# Altium integrated library Linear Technology Power Management Energy Harvesting.IntLib: 169 symbols (part 7 of 13)
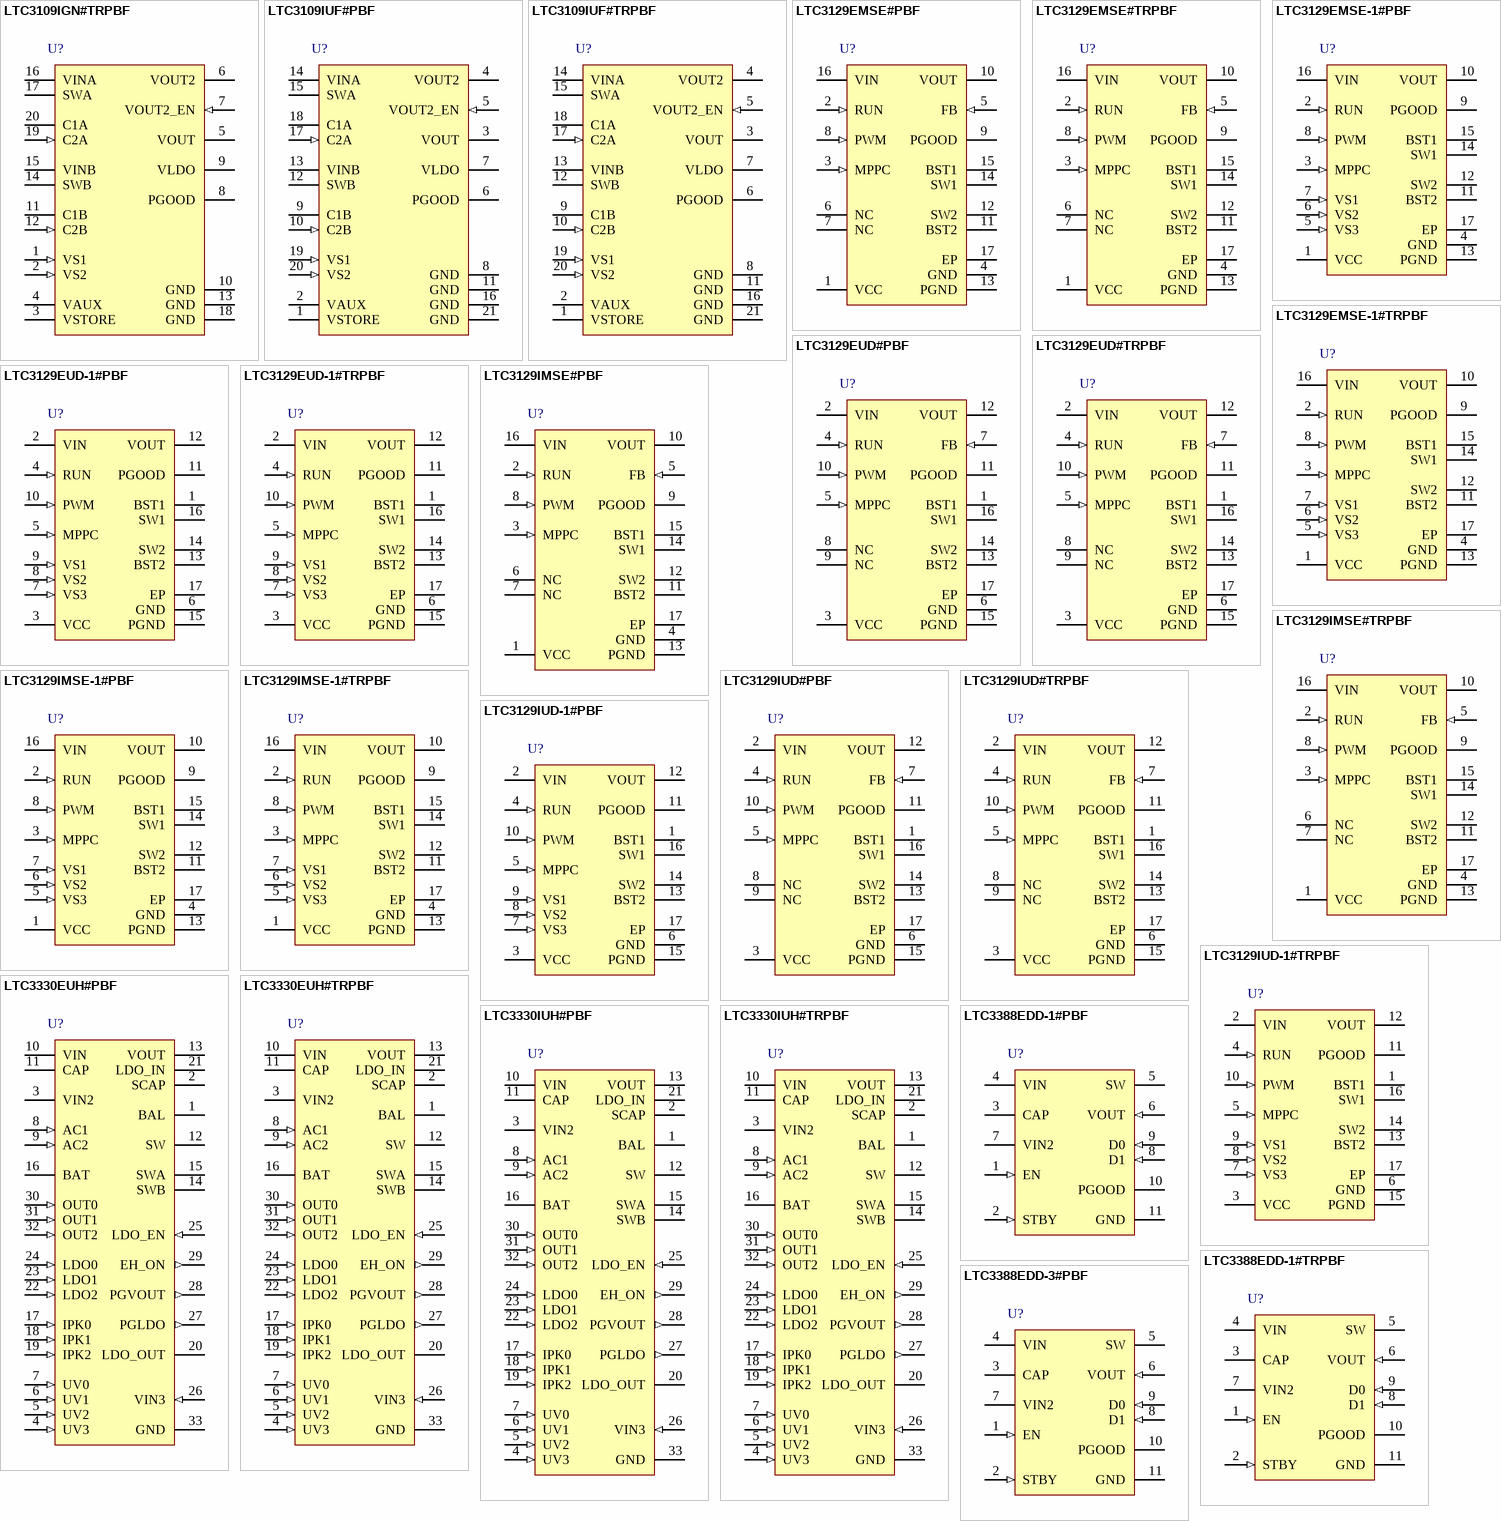
[diagram p11: symbols LTC3109IGN#TRPBF to LTC3388EDD-3#PBF]

## LTC3129IMSE-1#PBF
designator U?
15 V, 200 mA Synchronous Buck-Boost DC/DC Converter with 1.3 uA Quiescent Current, 16-pin SOP (MSE-16), -40 to 125 degC, Pb-Free; Manufacturer: Linear Technology; PartNumber: LTC3129IMSE-1#PBF; Number of Outputs: 1; Vin Max(V): 15; Vin Min(V): 1.92; Vout Max(V): 15.5; PackageVersion: Rev. F, 05/2013; PackageReference: MSE-16; PackageDescription: 16-Pin Plastic MSOP, Exposed Die Pad, Body 4.039 x 3 mm, Pitch 0.5 mm; Supplier 1: Digi-Key; Supplier Part Number 1: LTC3129IMSE-1#PBF-ND; Supplier 2: Farnell; Supplier Part Number 2: 2313432; Supplier 3: Newark; Supplier Part Number 3: 71W8442; RoHS: TRUE; Topology: Buck-Boost; Mounting Technology: Surface Mount; ComponentLink1Description: Manufacturer URL; ComponentLink1URL: http://www.linear.com/; ComponentLink2Description: Datasheet; ComponentLink2URL: http://cds.linear.com/docs/en/datasheet/31291f.pdf; ComponentLink3Description: Package Specification; ComponentLink3URL: http://cds.linear.com/docs/en/packaging/05081667_F_MSE16.pdf
footprint LT-MSE-16-EDP_N (SOP, 16-Leads, Body 4.1x3.1mm, Pitch 0.5mm, Thermal Pad 2.95x1.76mm, IPC Medium Density)
footprint LT-MSE-16-EDP_L (SOP, 16-Leads, Body 4.1x3.1mm, Pitch 0.5mm, Thermal Pad 2.95x1.76mm, IPC High Density)
footprint LT-MSE-16-EDP_M (SOP, 16-Leads, Body 4.1x3.1mm, Pitch 0.5mm, Thermal Pad 2.95x1.76mm, IPC Low Density)
pins: 1 VCC (power) "Output Voltage of the Internal Voltage Regulator. This is the supply pin for the internal circuitry. Bypass this output with a minimum of 2.2uF ceramic capacitor close to the pin. This pin may be back-driven by an external (See Datasheet)", 2 RUN (in) "Input to the Run Comparator. Pull this pin above 1.1V to enable the VCC regulator and above 1.28V to enable the converter. Connecting this pin to a resistor divider from VIN to ground allows programming a VIN start threshold (See Datasheet)", 3 MPPC (in) "Maximum Power Point Control Programming Pin. Connect this pin to a resistor divider from VIN to ground to enable the MPPC functionality. If the VOUT load is greater than what the power source can provide, the MPPC will (See Datasheet)", 4 GND (power) "Signal Ground. Provide a short direct PCB path between GND and the ground plane where the exposed pad is soldered.", 5 VS3 (in) "Output Voltage Select Pin. Connect this pin to ground or VCC to program the output voltage (see Table 1). This pin should not float or go below ground. If this pin is externally driven above VCC, a 1M resistor should be (See Datasheet)", 6 VS2 (in) "Output Voltage Select Pin. Connect this pin to ground or VCC to program the output voltage (see Table 1). This pin should not float or go below ground.", 7 VS1 (in) "Output Voltage Select Pin. Connect this pin to ground or VCC to program the output voltage (see Table 1). This pin should not float or go below ground.", 8 PWM (in) "Mode Select Pin. PWM = Low (ground): Enables automatic Burst Mode PWM = Low (ground): Enables automatic Burst Mode operation. PWM = High (tie to VCC): Fixed frequency PWM operation. This pin should not be allowed to float. (See Datasheet)", 9 PGOOD (oc) "Open drain output that pulls to ground when FB drops too far below its regulated voltage. Connect a pull-up resistor from this pin to a positive supply. This pin can sink up to the absolute maximum rating of 15mA when low. (See Datasheet)", 10 VOUT (power) "Output voltage of the converter, set by the VS1-VS3 programming pins according to Table 1. Connect a minimum value of 4.7uF ceramic capacitor from this pin to the ground plane, as close to the pin as possible.", 11 BST2 "Boot-Strapped Floating Supply for High Side NMOS Gate Drive. Connect to SW2 through a 22nF capacitor, as close to the part as possible. The value is not critical. Any value from 4.7nF to 47nF may be used", 12 SW2 "Switch Pin. Connect to one side of the inductor. Keep PCB trace lengths as short and wide as possible to reduce EMI.", 13 PGND (power) "Power Ground. Provide a short direct PCB path between PGND and the ground plane.", 14 SW1 "Switch Pin. Connect to one side of the inductor. Keep PCB trace lengths as short and wide as possible to reduce EMI.", 15 BST1 "Boot-Strapped Floating Supply for High Side NMOS Gate Drive. Connect to SW1 through a 22nF capacitor, as close to the part as possible. The value is not critical. Any value from 4.7nF to 47nF may be used.", 16 VIN (power) "Input Voltage for the Converter. Connect a minimum of 4.7uF ceramic decoupling capacitor from this pin to the ground plane, as close to the pin as possible.", 17 EP (power) "The exposed pad must also be soldered to the PCB ground plane. It serves as a power ground connection, and as a means of conducting heat away from the die."

## LTC3129IMSE-1#TRPBF
designator U?
15 V, 200 mA Synchronous Buck-Boost DC/DC Converter with 1.3 uA Quiescent Current, 16-pin SOP (MSE-16), -40 to 125 degC, Pb-Free, Tape and Reel; Manufacturer: Linear Technology; PartNumber: LTC3129IMSE-1#TRPBF; Number of Outputs: 1; Vin Max(V): 15; Vin Min(V): 1.92; Vout Max(V): 15.5; PackageVersion: Rev. F, 05/2013; PackageReference: MSE-16; PackageDescription: 16-Pin Plastic MSOP, Exposed Die Pad, Body 4.039 x 3 mm, Pitch 0.5 mm; Supplier 1: Digi-Key; Supplier Part Number 1: LTC3129IMSE-1#TRPBF-ND; Supplier 2: Newark; Supplier Part Number 2: 71W8443; Packing: Tape and Reel; RoHS: TRUE; Topology: Buck-Boost; Mounting Technology: Surface Mount; ComponentLink1Description: Manufacturer URL; ComponentLink1URL: http://www.linear.com/; ComponentLink2Description: Datasheet; ComponentLink2URL: http://cds.linear.com/docs/en/datasheet/31291f.pdf; ComponentLink3Description: Package Specification; ComponentLink3URL: http://cds.linear.com/docs/en/packaging/05081667_F_MSE16.pdf
footprint LT-MSE-16-EDP_N (SOP, 16-Leads, Body 4.1x3.1mm, Pitch 0.5mm, Thermal Pad 2.95x1.76mm, IPC Medium Density)
footprint LT-MSE-16-EDP_L (SOP, 16-Leads, Body 4.1x3.1mm, Pitch 0.5mm, Thermal Pad 2.95x1.76mm, IPC High Density)
footprint LT-MSE-16-EDP_M (SOP, 16-Leads, Body 4.1x3.1mm, Pitch 0.5mm, Thermal Pad 2.95x1.76mm, IPC Low Density)
pins: 1 VCC (power) "Output Voltage of the Internal Voltage Regulator. This is the supply pin for the internal circuitry. Bypass this output with a minimum of 2.2uF ceramic capacitor close to the pin. This pin may be back-driven by an external (See Datasheet)", 2 RUN (in) "Input to the Run Comparator. Pull this pin above 1.1V to enable the VCC regulator and above 1.28V to enable the converter. Connecting this pin to a resistor divider from VIN to ground allows programming a VIN start threshold (See Datasheet)", 3 MPPC (in) "Maximum Power Point Control Programming Pin. Connect this pin to a resistor divider from VIN to ground to enable the MPPC functionality. If the VOUT load is greater than what the power source can provide, the MPPC will (See Datasheet)", 4 GND (power) "Signal Ground. Provide a short direct PCB path between GND and the ground plane where the exposed pad is soldered.", 5 VS3 (in) "Output Voltage Select Pin. Connect this pin to ground or VCC to program the output voltage (see Table 1). This pin should not float or go below ground. If this pin is externally driven above VCC, a 1M resistor should be (See Datasheet)", 6 VS2 (in) "Output Voltage Select Pin. Connect this pin to ground or VCC to program the output voltage (see Table 1). This pin should not float or go below ground.", 7 VS1 (in) "Output Voltage Select Pin. Connect this pin to ground or VCC to program the output voltage (see Table 1). This pin should not float or go below ground.", 8 PWM (in) "Mode Select Pin. PWM = Low (ground): Enables automatic Burst Mode PWM = Low (ground): Enables automatic Burst Mode operation. PWM = High (tie to VCC): Fixed frequency PWM operation. This pin should not be allowed to float. (See Datasheet)", 9 PGOOD (oc) "Open drain output that pulls to ground when FB drops too far below its regulated voltage. Connect a pull-up resistor from this pin to a positive supply. This pin can sink up to the absolute maximum rating of 15mA when low. (See Datasheet)", 10 VOUT (power) "Output voltage of the converter, set by the VS1-VS3 programming pins according to Table 1. Connect a minimum value of 4.7uF ceramic capacitor from this pin to the ground plane, as close to the pin as possible.", 11 BST2 "Boot-Strapped Floating Supply for High Side NMOS Gate Drive. Connect to SW2 through a 22nF capacitor, as close to the part as possible. The value is not critical. Any value from 4.7nF to 47nF may be used", 12 SW2 "Switch Pin. Connect to one side of the inductor. Keep PCB trace lengths as short and wide as possible to reduce EMI.", 13 PGND (power) "Power Ground. Provide a short direct PCB path between PGND and the ground plane.", 14 SW1 "Switch Pin. Connect to one side of the inductor. Keep PCB trace lengths as short and wide as possible to reduce EMI.", 15 BST1 "Boot-Strapped Floating Supply for High Side NMOS Gate Drive. Connect to SW1 through a 22nF capacitor, as close to the part as possible. The value is not critical. Any value from 4.7nF to 47nF may be used.", 16 VIN (power) "Input Voltage for the Converter. Connect a minimum of 4.7uF ceramic decoupling capacitor from this pin to the ground plane, as close to the pin as possible.", 17 EP (power) "The exposed pad must also be soldered to the PCB ground plane. It serves as a power ground connection, and as a means of conducting heat away from the die."

## LTC3129IUD#PBF
designator U?
15 V, 200 mA Synchronous Buck-Boost DC/DC Converter with 1.3 uA Quiescent Current, 16-pin QFN (UD-16-EPV-AA), -40 to 125 degC, Pb-Free; Manufacturer: Linear Technology; PartNumber: LTC3129IUD#PBF; Number of Outputs: 1; Vin Max(V): 15; Vin Min(V): 1.92; Vout Max(V): 15.75; PackageVersion: Rev. A, 06/2010; PackageReference: UD-16; PackageDescription: 16-Pin Plastic QFN, Body 3 x 3 mm, Pitch 0.5 mm; Supplier 1: Digi-Key; Supplier Part Number 1: LTC3129IUD#PBF-ND; Supplier 2: Farnell; Supplier Part Number 2: 2313433; Supplier 3: Newark; Supplier Part Number 3: 71W8448; RoHS: TRUE; Topology: Buck-Boost; Mounting Technology: Surface Mount; Code_JEDEC: MO-220; ComponentLink1Description: Manufacturer URL; ComponentLink1URL: http://www.linear.com/; ComponentLink2Description: Datasheet; ComponentLink2URL: http://cds.linear.com/docs/en/datasheet/3129f.pdf; ComponentLink3Description: Package Specification; ComponentLink3URL: http://cds.linear.com/docs/en/packaging/QFN_16_05-08-1700.pdf
footprint LT-UD-16-EPV-AA_N (QFN, 16-Leads, Body 3.1x3.1mm, Pitch 0.5mm, Thermal Pad 1.65x1.65mm, IPC Medium Density)
footprint LT-UD-16-EPV-AA_L (QFN, 16-Leads, Body 3.1x3.1mm, Pitch 0.5mm, Thermal Pad 1.65x1.65mm, IPC High Density)
footprint LT-UD-16-EPV-AA_M (QFN, 16-Leads, Body 3.1x3.1mm, Pitch 0.5mm, Thermal Pad 1.65x1.65mm, IPC Low Density)
pins: 1 BST1 "Bootstrapped Floating Supply for  High Side NMOS Gate Drive. Connect to SW1 through a  22nF capacitor, as close to the part as possible. The value  is not critical. Any value from 4.7nF to 47nF may be used.", 2 VIN (power) "Input Voltage for the Converter. Connect  a minimum of 4.7uF ceramic decoupling capacitor from  this pin to the ground plane, as close to the pin as possible.", 3 VCC (power) "Output voltage of the internal voltage  regulator. This is the supply pin for the internal circuitry.  Bypass this output with a minimum of 2.2uF ceramic  capacitor close to the pin. This pin may be back-driven  by an (See Datasheet)", 4 RUN (in) "Input to the Run Comparator. Pull this  pin above 1.1V to enable the VCC regulator and above 1.28V  to enable the converter. Connecting this pin to a resistor  divider from VIN to ground allows programming a VIN start (See Datasheet)", 5 MPPC (in) "Maximum Power Point Control Programming Pin. Connect this pin to a resistor divider from  VIN to ground to enable the MPPC functionality. If the VOUT load is greater than what the power source can provide,  the MPPC will (See Datasheet)", 6 GND (power) "Signal Ground. Provide a short direct  PCB path between GND and the ground plane where the  exposed pad is soldered.", 7 FB (in) "Feedback Input to the Error Amplifier. V OUT = 1.175V • [1+(R1/R2)]. Note this pin is very noise  sensitive, therefore minimize trace length and stray capacitance. Connect to a resistor divider from VOUT to ground. The(See Datasheet)", 8 NC "Unused. These pins should be  grounded.", 9 NC "Unused. These pins should be  grounded.", 10 PWM (in) "Mode Select Pin. PWM = Low (ground): Enables automatic Burst Mode  operation. PWM = High (tie to VCC): Fixed frequency PMW operation. This pin should not be allowed to float. It has an internal  5M pull-down resistor.", 11 PGOOD (oc) "Open drain output that pulls to  ground when FB drops too far below its regulated voltage. Connect a pull-up resistor from this pin to a positive  supply. This pin can sink up to the absolute maximum  rating of 15mA when low.(See Datasheet)", 12 VOUT (power) "Output voltage of the converter.  Connect a minimum value of 4.7uF ceramic capacitor from  this pin to the ground plane, as close to the pin as possible.", 13 BST2 "Bootstrapped floating supply for  high side NMOS gate drive. Connect to SW2 through a  22nF capacitor, as close to the part as possible. The value  is not critical. Any value from 4.7nF to 47nF may be used.", 14 SW2 "Switch Pin. Connect to one side of  the inductor. Keep PCB trace lengths as short and wide  as possible to reduce EMI.", 15 PGND (power) "Power Ground. Provide a short direct PCB  path between PGND and the ground plane. The exposed  pad must also be soldered to the PCB ground plane. It  serves as a power ground connection, and as a means of  conducting heat (See Datasheet)", 16 SW1 "Switch Pin. Connect to one side of  the inductor. Keep PCB trace lengths as short and wide  as possible to reduce EMI.", 17 EP (power) "Power Ground. Provide a short direct PCB  path between PGND and the ground plane. The exposed  pad must also be soldered to the PCB ground plane. It  serves as a power ground connection, and as a means of  conducting heat (See Datasheet)"

## LTC3129IUD#TRPBF
designator U?
15 V, 200 mA Synchronous Buck-Boost DC/DC Converter with 1.3 uA Quiescent Current, 16-pin QFN (UD-16-EPV-AA), -40 to 125 degC, Pb-Free, Tape and Reel; Manufacturer: Linear Technology; PartNumber: LTC3129IUD#TRPBF; Number of Outputs: 1; Vin Max(V): 15; Vin Min(V): 1.92; Vout Max(V): 15.5; PackageVersion: Rev. A, 06/2010; PackageReference: UD-16; PackageDescription: 16-Pin Plastic QFN, Body 3 x 3 mm, Pitch 0.5 mm; Supplier 1: Digi-Key; Supplier Part Number 1: LTC3129IUD#TRPBF-ND; Supplier 2: Newark; Supplier Part Number 2: 71W8449; Packing: Tape and Reel; RoHS: TRUE; Topology: Buck-Boost; Mounting Technology: Surface Mount; Code_JEDEC: MO-220; ComponentLink1Description: Manufacturer URL; ComponentLink1URL: http://www.linear.com/; ComponentLink2Description: Datasheet; ComponentLink2URL: http://cds.linear.com/docs/en/datasheet/3129f.pdf; ComponentLink3Description: Package Specification; ComponentLink3URL: http://cds.linear.com/docs/en/packaging/QFN_16_05-08-1700.pdf
footprint LT-UD-16-EPV-AA_N (QFN, 16-Leads, Body 3.1x3.1mm, Pitch 0.5mm, Thermal Pad 1.65x1.65mm, IPC Medium Density)
footprint LT-UD-16-EPV-AA_L (QFN, 16-Leads, Body 3.1x3.1mm, Pitch 0.5mm, Thermal Pad 1.65x1.65mm, IPC High Density)
footprint LT-UD-16-EPV-AA_M (QFN, 16-Leads, Body 3.1x3.1mm, Pitch 0.5mm, Thermal Pad 1.65x1.65mm, IPC Low Density)
pins: 1 BST1 "Bootstrapped Floating Supply for  High Side NMOS Gate Drive. Connect to SW1 through a  22nF capacitor, as close to the part as possible. The value  is not critical. Any value from 4.7nF to 47nF may be used.", 2 VIN (power) "Input Voltage for the Converter. Connect  a minimum of 4.7uF ceramic decoupling capacitor from  this pin to the ground plane, as close to the pin as possible.", 3 VCC (power) "Output voltage of the internal voltage  regulator. This is the supply pin for the internal circuitry.  Bypass this output with a minimum of 2.2uF ceramic  capacitor close to the pin. This pin may be back-driven  by an (See Datasheet)", 4 RUN (in) "Input to the Run Comparator. Pull this  pin above 1.1V to enable the VCC regulator and above 1.28V  to enable the converter. Connecting this pin to a resistor  divider from VIN to ground allows programming a VIN start (See Datasheet)", 5 MPPC (in) "Maximum Power Point Control Programming Pin. Connect this pin to a resistor divider from  VIN to ground to enable the MPPC functionality. If the VOUT load is greater than what the power source can provide,  the MPPC will (See Datasheet)", 6 GND (power) "Signal Ground. Provide a short direct  PCB path between GND and the ground plane where the  exposed pad is soldered.", 7 FB (in) "Feedback Input to the Error Amplifier. V OUT = 1.175V • [1+(R1/R2)]. Note this pin is very noise  sensitive, therefore minimize trace length and stray capacitance. Connect to a resistor divider from VOUT to ground. The(See Datasheet)", 8 NC "Unused. These pins should be  grounded.", 9 NC "Unused. These pins should be  grounded.", 10 PWM (in) "Mode Select Pin. PWM = Low (ground): Enables automatic Burst Mode  operation. PWM = High (tie to VCC): Fixed frequency PMW operation. This pin should not be allowed to float. It has an internal  5M pull-down resistor.", 11 PGOOD (oc) "Open drain output that pulls to  ground when FB drops too far below its regulated voltage. Connect a pull-up resistor from this pin to a positive  supply. This pin can sink up to the absolute maximum  rating of 15mA when low.(See Datasheet)", 12 VOUT (power) "Output voltage of the converter.  Connect a minimum value of 4.7uF ceramic capacitor from  this pin to the ground plane, as close to the pin as possible.", 13 BST2 "Bootstrapped floating supply for  high side NMOS gate drive. Connect to SW2 through a  22nF capacitor, as close to the part as possible. The value  is not critical. Any value from 4.7nF to 47nF may be used.", 14 SW2 "Switch Pin. Connect to one side of  the inductor. Keep PCB trace lengths as short and wide  as possible to reduce EMI.", 15 PGND (power) "Power Ground. Provide a short direct PCB  path between PGND and the ground plane. The exposed  pad must also be soldered to the PCB ground plane. It  serves as a power ground connection, and as a means of  conducting heat (See Datasheet)", 16 SW1 "Switch Pin. Connect to one side of  the inductor. Keep PCB trace lengths as short and wide  as possible to reduce EMI.", 17 EP (power) "Power Ground. Provide a short direct PCB  path between PGND and the ground plane. The exposed  pad must also be soldered to the PCB ground plane. It  serves as a power ground connection, and as a means of  conducting heat (See Datasheet)"

## LTC3129IUD-1#PBF
designator U?
15 V, 200 mA Synchronous Buck-Boost DC/DC Converter with 1.3 uA Quiescent Current, 16-pin QFN (UD-16-EPV-AA), -40 to 125 degC, Pb-Free; Manufacturer: Linear Technology; PartNumber: LTC3129IUD-1#PBF; Number of Outputs: 1; Vin Max(V): 15; Vin Min(V): 1.92; Vout Max(V): 15.5; PackageVersion: Rev. A, 06/2010; PackageReference: UD-16; PackageDescription: 16-Pin Plastic QFN, Body 3 x 3 mm, Pitch 0.5 mm; Supplier 1: Digi-Key; Supplier Part Number 1: LTC3129IUD-1#PBF-ND; Supplier 2: Farnell; Supplier Part Number 2: 2313434; Supplier 3: Newark; Supplier Part Number 3: 71W8446; RoHS: TRUE; Topology: Buck-Boost; Mounting Technology: Surface Mount; Code_JEDEC: MO-220; ComponentLink1Description: Manufacturer URL; ComponentLink1URL: http://www.linear.com/; ComponentLink2Description: Datasheet; ComponentLink2URL: http://cds.linear.com/docs/en/datasheet/31291f.pdf; ComponentLink3Description: Package Specification; ComponentLink3URL: http://cds.linear.com/docs/en/packaging/QFN_16_05-08-1700.pdf
footprint LT-UD-16-EPV-AA_N (QFN, 16-Leads, Body 3.1x3.1mm, Pitch 0.5mm, Thermal Pad 1.65x1.65mm, IPC Medium Density)
footprint LT-UD-16-EPV-AA_L (QFN, 16-Leads, Body 3.1x3.1mm, Pitch 0.5mm, Thermal Pad 1.65x1.65mm, IPC High Density)
footprint LT-UD-16-EPV-AA_M (QFN, 16-Leads, Body 3.1x3.1mm, Pitch 0.5mm, Thermal Pad 1.65x1.65mm, IPC Low Density)
pins: 1 BST1 "Boot-Strapped Floating Supply for High Side NMOS Gate Drive. Connect to SW1 through a 22nF capacitor, as close to the part as possible. The value is not critical. Any value from 4.7nF to 47nF may be used.", 2 VIN (power) "Input Voltage for the Converter. Connect a minimum of 4.7uF ceramic decoupling capacitor from this pin to the ground plane, as close to the pin as possible.", 3 VCC (power) "Output Voltage of the Internal Voltage Regulator. This is the supply pin for the internal circuitry. Bypass this output with a minimum of 2.2uF ceramic capacitor close to the pin. This pin may be back-driven by an external (See Datasheet)", 4 RUN (in) "Input to the Run Comparator. Pull this pin above 1.1V to enable the VCC regulator and above 1.28V to enable the converter. Connecting this pin to a resistor divider from VIN to ground allows programming a VIN start threshold (See Datasheet)", 5 MPPC (in) "Maximum Power Point Control Programming Pin. Connect this pin to a resistor divider from VIN to ground to enable the MPPC functionality. If the VOUT load is greater than what the power source can provide, the MPPC will (See Datasheet)", 6 GND (power) "Signal Ground. Provide a short direct PCB path between GND and the ground plane where the exposed pad is soldered.", 7 VS3 (in) "Output Voltage Select Pin. Connect this pin to ground or VCC to program the output voltage (see Table 1). This pin should not float or go below ground. If this pin is externally driven above VCC, a 1M resistor should be (See Datasheet)", 8 VS2 (in) "Output Voltage Select Pin. Connect this pin to ground or VCC to program the output voltage (see Table 1). This pin should not float or go below ground.", 9 VS1 (in) "Output Voltage Select Pin. Connect this pin to ground or VCC to program the output voltage (see Table 1). This pin should not float or go below ground.", 10 PWM (in) "Mode Select Pin. PWM = Low (ground): Enables automatic Burst Mode PWM = Low (ground): Enables automatic Burst Mode operation. PWM = High (tie to VCC): Fixed frequency PWM operation. This pin should not be allowed to float. (See Datasheet)", 11 PGOOD (oc) "Open drain output that pulls to ground when FB drops too far below its regulated voltage. Connect a pull-up resistor from this pin to a positive supply. This pin can sink up to the absolute maximum rating of 15mA when low. (See Datasheet)", 12 VOUT (power) "Output voltage of the converter, set by the VS1-VS3 programming pins according to Table 1. Connect a minimum value of 4.7uF ceramic capacitor from this pin to the ground plane, as close to the pin as possible.", 13 BST2 "Boot-Strapped Floating Supply for High Side NMOS Gate Drive. Connect to SW2 through a 22nF capacitor, as close to the part as possible. The value is not critical. Any value from 4.7nF to 47nF may be used", 14 SW2 "Switch Pin. Connect to one side of the inductor. Keep PCB trace lengths as short and wide as possible to reduce EMI.", 15 PGND (power) "Power Ground. Provide a short direct PCB path between PGND and the ground plane.", 16 SW1 "Switch Pin. Connect to one side of the inductor. Keep PCB trace lengths as short and wide as possible to reduce EMI.", 17 EP (power) "The exposed pad must also be soldered to the PCB ground plane. It serves as a power ground connection, and as a means of conducting heat away from the die."

## LTC3129IUD-1#TRPBF
designator U?
15 V, 200 mA Synchronous Buck-Boost DC/DC Converter with 1.3 uA Quiescent Current, 16-pin QFN (UD-16-EPV-AA), -40 to 125 degC, Pb-Free, Tape and Reel; Manufacturer: Linear Technology; PartNumber: LTC3129IUD-1#TRPBF; Number of Outputs: 1; Vin Max(V): 15; Vin Min(V): 1.92; Vout Max(V): 15.5; PackageVersion: Rev. A, 06/2010; PackageReference: UD-16; PackageDescription: 16-Pin Plastic QFN, Body 3 x 3 mm, Pitch 0.5 mm; Supplier 1: Digi-Key; Supplier Part Number 1: LTC3129IUD-1#TRPBF-ND; Supplier 2: Newark; Supplier Part Number 2: 71W8447; Packing: Tape and Reel; RoHS: TRUE; Topology: Buck-Boost; Mounting Technology: Surface Mount; Code_JEDEC: MO-220; ComponentLink1Description: Manufacturer URL; ComponentLink1URL: http://www.linear.com/; ComponentLink2Description: Datasheet; ComponentLink2URL: http://cds.linear.com/docs/en/datasheet/31291f.pdf; ComponentLink3Description: Package Specification; ComponentLink3URL: http://cds.linear.com/docs/en/packaging/QFN_16_05-08-1700.pdf
footprint LT-UD-16-EPV-AA_N (QFN, 16-Leads, Body 3.1x3.1mm, Pitch 0.5mm, Thermal Pad 1.65x1.65mm, IPC Medium Density)
footprint LT-UD-16-EPV-AA_L (QFN, 16-Leads, Body 3.1x3.1mm, Pitch 0.5mm, Thermal Pad 1.65x1.65mm, IPC High Density)
footprint LT-UD-16-EPV-AA_M (QFN, 16-Leads, Body 3.1x3.1mm, Pitch 0.5mm, Thermal Pad 1.65x1.65mm, IPC Low Density)
pins: 1 BST1 "Boot-Strapped Floating Supply for High Side NMOS Gate Drive. Connect to SW1 through a 22nF capacitor, as close to the part as possible. The value is not critical. Any value from 4.7nF to 47nF may be used.", 2 VIN (power) "Input Voltage for the Converter. Connect a minimum of 4.7uF ceramic decoupling capacitor from this pin to the ground plane, as close to the pin as possible.", 3 VCC (power) "Output Voltage of the Internal Voltage Regulator. This is the supply pin for the internal circuitry. Bypass this output with a minimum of 2.2uF ceramic capacitor close to the pin. This pin may be back-driven by an external (See Datasheet)", 4 RUN (in) "Input to the Run Comparator. Pull this pin above 1.1V to enable the VCC regulator and above 1.28V to enable the converter. Connecting this pin to a resistor divider from VIN to ground allows programming a VIN start threshold (See Datasheet)", 5 MPPC (in) "Maximum Power Point Control Programming Pin. Connect this pin to a resistor divider from VIN to ground to enable the MPPC functionality. If the VOUT load is greater than what the power source can provide, the MPPC will (See Datasheet)", 6 GND (power) "Signal Ground. Provide a short direct PCB path between GND and the ground plane where the exposed pad is soldered.", 7 VS3 (in) "Output Voltage Select Pin. Connect this pin to ground or VCC to program the output voltage (see Table 1). This pin should not float or go below ground. If this pin is externally driven above VCC, a 1M resistor should be (See Datasheet)", 8 VS2 (in) "Output Voltage Select Pin. Connect this pin to ground or VCC to program the output voltage (see Table 1). This pin should not float or go below ground.", 9 VS1 (in) "Output Voltage Select Pin. Connect this pin to ground or VCC to program the output voltage (see Table 1). This pin should not float or go below ground.", 10 PWM (in) "Mode Select Pin. PWM = Low (ground): Enables automatic Burst Mode PWM = Low (ground): Enables automatic Burst Mode operation. PWM = High (tie to VCC): Fixed frequency PWM operation. This pin should not be allowed to float. (See Datasheet)", 11 PGOOD (oc) "Open drain output that pulls to ground when FB drops too far below its regulated voltage. Connect a pull-up resistor from this pin to a positive supply. This pin can sink up to the absolute maximum rating of 15mA when low. (See Datasheet)", 12 VOUT (power) "Output voltage of the converter, set by the VS1-VS3 programming pins according to Table 1. Connect a minimum value of 4.7uF ceramic capacitor from this pin to the ground plane, as close to the pin as possible.", 13 BST2 "Boot-Strapped Floating Supply for High Side NMOS Gate Drive. Connect to SW2 through a 22nF capacitor, as close to the part as possible. The value is not critical. Any value from 4.7nF to 47nF may be used", 14 SW2 "Switch Pin. Connect to one side of the inductor. Keep PCB trace lengths as short and wide as possible to reduce EMI.", 15 PGND (power) "Power Ground. Provide a short direct PCB path between PGND and the ground plane.", 16 SW1 "Switch Pin. Connect to one side of the inductor. Keep PCB trace lengths as short and wide as possible to reduce EMI.", 17 EP (power) "The exposed pad must also be soldered to the PCB ground plane. It serves as a power ground connection, and as a means of conducting heat away from the die."

## LTC3330EUH#PBF
designator U?
Energy Harvesting DC/DC with Battery Backup, 32-pin QFN (UH-32), -40 to 85 degC, Pb-Free; Manufacturer: Linear Technology; PartNumber: LTC3330EUH#PBF; Energy Source: Piezoelectric, Solar, Magnetic; Number of Outputs: 2; Topology: Buck-Boost; Vin Max(V): 18; Vin Min(V): 3; PackageVersion: Rev. D, 06/2010; PackageReference: UH-32; PackageDescription: 32-Pin Plastic QFN, Body 5 x 5 mm, Pitch 0.5 mm; RoHS: TRUE; Mounting Technology: Surface Mount; Code_JEDEC: MO-220; ComponentLink1Description: Manufacturer URL; ComponentLink1URL: http://www.linear.com/; ComponentLink2Description: Datasheet; ComponentLink2URL: http://cds.linear.com/docs/en/datasheet/3330p.pdf; ComponentLink3Description: Package Specification; ComponentLink3URL: http://cds.linear.com/docs/en/packaging/QFN_32_05-08-1693.pdf
footprint LT-UH-32_N (QFN, 32-Leads, Body 5.1x5.1mm, Pitch 0.5mm, Thermal Pad 3.45X3.45mm, IPC Medium Density)
footprint LT-UH-32_L (QFN, 32-Leads, Body 5.1x5.1mm, Pitch 0.5mm, Thermal Pad 3.45X3.45mm, IPC High Density)
footprint LT-UH-32_M (QFN, 32-Leads, Body 5.1x5.1mm, Pitch 0.5mm, Thermal Pad 3.45X3.45mm, IPC Low Density)
pins: 1 BAL "Supercapacitor Balance Point. The common node of a stack of two supercapacitors is connected to BAL. A source/sink balancing current of up to 10mA is available. Tie BAL along with SCAP to GND to disable the balancer and its (See Datasheet)", 2 SCAP "Supply and Sense Point for Supercapacitor Balancer. Tie the top of a 2-capacitor stack to SCAP and the middle of the stack to BAL to activate balancing. Tie SCAP along with BAL to GND to disable the balancer and its (See Datasheet)", 3 VIN2 (power) "Internal Low Voltage Rail to Serve as Gate Drive for Buck NMOS Switch. Connect a 4.7uF (or larger) capacitor from VIN2 to GND. This pin is not intended for use as an external system rail.", 4 UV3 (in) "UVLO Select Bits for the Buck Switching Regulator. Tie high to VIN2 or low to GND to select the desired UVLO rising and falling thresholds (see Table 4). Do not float.", 5 UV2 (in) "UVLO Select Bits for the Buck Switching Regulator. Tie high to VIN2 or low to GND to select the desired UVLO rising and falling thresholds (see Table 4). Do not float.", 6 UV1 (in) "UVLO Select Bits for the Buck Switching Regulator. Tie high to VIN2 or low to GND to select the desired UVLO rising and falling thresholds (see Table 4). Do not float.", 7 UV0 (in) "UVLO Select Bits for the Buck Switching Regulator. Tie high to VIN2 or low to GND to select the desired UVLO rising and falling thresholds (see Table 4). Do not float.", 8 AC1 (in) "Input Connection for Piezoelectric Element or Other AC Source (used in conjunction with AC2 for differential AC inputs).", 9 AC2 (in) "Input Connection for Piezoelectric Element or Other AC Source (used in conjunction with AC1 for differential AC inputs).", 10 VIN (power) "Rectified Input Voltage. A capacitor on this pin serves as an energy reservoir and input supply for the buck regulator. The VIN voltage is internally clamped to a maximum of 20V (typical).", 11 CAP "Internal Rail Referenced to VIN to Serve as Gate Drive for Buck PMOS Switch. Connect a 1uF (or larger) capacitor between CAP and VIN. This pin is not intended for use as an external system rail.", 12 SW (power) "Switch Node for the Buck Switching Regulator. Connect a 22uH or greater external inductor between this node and VOUT.", 13 VOUT (power) "Regulated Output Voltage Derived from the Buck or Buck-Boost Switching Regulator.", 14 SWB (power) "Switch Node for the Buck-Boost Switching Regulator. Connect an external inductor between this node and SWA of value per Table 3.", 15 SWA (power) "Switch Node for the Buck-Boost Switching Regulator. Connect an external inductor between this node and SWB of value per Table 3.", 16 BAT (power) "Input for Battery. BAT serves as the input to the buck-boost switching regulator.", 17 IPK0 (in) "IPEAK Select Bits or the Buck-Boost Switching Regulator. Tie high to VIN3 or low to GND to select the desired IPEAK (see Table 3). Do not float.", 18 IPK1 (in) "IPEAK Select Bits or the Buck-Boost Switching Regulator. Tie high to VIN3 or low to GND to select the desired IPEAK (see Table 3). Do not float.", 19 IPK2 (in) "IPEAK Select Bits or the Buck-Boost Switching Regulator. Tie high to VIN3 or low to GND to select the desired IPEAK (see Table 3). Do not float.", 20 LDO_OUT (power) "Regulated LDO Output. This output can be used as a quiet supply. One mode is provided to run the LDO as a current limited switch to alternately power up and power down circuitry without low power modes.", 21 LDO_IN (power) "Input Voltage for the LDO regulator.", 22 LDO2 (in) "LDO Voltage Select Bits. Tie high to LDO_IN or low to GND to select the desired LDO_OUT voltage (see Table 2). Do not float.", 23 LDO1 (in) "LDO Voltage Select Bits. Tie high to LDO_IN or low to GND to select the desired LDO_OUT voltage (see Table 2). Do not float.", 24 LDO0 (in) "LDO Voltage Select Bits. Tie high to LDO_IN or low to GND to select the desired LDO_OUT voltage (see Table 2). Do not float.", 25 LDO_EN (in) "LDO Enable Input. Active high input with logic levels referenced to LDO_IN. Do not float.", 26 VIN3 (in) "Internal Low Voltage Rail Used by the Prioritizer. Connect a 1uF (or larger) capacitor from VIN3 to GND. This pin is not intended for use as an external system rail.", 27 PGLDO (out) "Power Good Output for LDO_OUT. Logic level output referenced to an internal maximum rail (see Operation). PGLDO transitioning high indicates 92.5% (typical) regulation has been reached on LDO_OUT. PGLDO remains high until (See Datasheet)", 28 PGVOUT (out) "Power Good Output for VOUT. Logic level output referenced to an internal maximum rail (see Operation). PGVOUT transitioning high indicates regulation has been reached on VOUT (VOUT = Sleep Rising). PGVOUT remains high until (See Datasheet)", 29 EH_ON (out) "Switcher Status. Logic level output referenced to VIN3. EH_ON is high when the buck switching regulator is in use. It is pulled low when buck-boost switching regulator is in use.", 30 OUT0 (in) "VOUT Voltage Select Bits. Tie high to VIN3 or low to GND to select the desired VOUT (see Table 1). Do not float.", 31 OUT1 (in) "VOUT Voltage Select Bits. Tie high to VIN3 or low to GND to select the desired VOUT (see Table 1). Do not float.", 32 OUT2 (in) "VOUT Voltage Select Bits. Tie high to VIN3 or low to GND to select the desired VOUT (see Table 1). Do not float.", 33 GND (power) "Ground. The exposed pad must be connected to a continuous ground plane on the second layer of the printed circuit board by several vias directly under the LTC3330."

## LTC3330EUH#TRPBF
designator U?
Energy Harvesting DC/DC with Battery Backup, 32-pin QFN (UH-32), -40 to 85 degC, Pb-Free, Tape and Reel; Manufacturer: Linear Technology; PartNumber: LTC3330EUH#TRPBF; Energy Source: Piezoelectric, Solar, Magnetic; Number of Outputs: 2; Topology: Buck-Boost; Vin Max(V): 18; Vin Min(V): 3; PackageVersion: Rev. D, 06/2010; PackageReference: UH-32; PackageDescription: 32-Pin Plastic QFN, Body 5 x 5 mm, Pitch 0.5 mm; Packing: Tape and Reel; RoHS: TRUE; Mounting Technology: Surface Mount; Code_JEDEC: MO-220; ComponentLink1Description: Manufacturer URL; ComponentLink1URL: http://www.linear.com/; ComponentLink2Description: Datasheet; ComponentLink2URL: http://cds.linear.com/docs/en/datasheet/3330p.pdf; ComponentLink3Description: Package Specification; ComponentLink3URL: http://cds.linear.com/docs/en/packaging/QFN_32_05-08-1693.pdf
footprint LT-UH-32_N (QFN, 32-Leads, Body 5.1x5.1mm, Pitch 0.5mm, Thermal Pad 3.45X3.45mm, IPC Medium Density)
footprint LT-UH-32_L (QFN, 32-Leads, Body 5.1x5.1mm, Pitch 0.5mm, Thermal Pad 3.45X3.45mm, IPC High Density)
footprint LT-UH-32_M (QFN, 32-Leads, Body 5.1x5.1mm, Pitch 0.5mm, Thermal Pad 3.45X3.45mm, IPC Low Density)
pins: 1 BAL "Supercapacitor Balance Point. The common node of a stack of two supercapacitors is connected to BAL. A source/sink balancing current of up to 10mA is available. Tie BAL along with SCAP to GND to disable the balancer and its (See Datasheet)", 2 SCAP "Supply and Sense Point for Supercapacitor Balancer. Tie the top of a 2-capacitor stack to SCAP and the middle of the stack to BAL to activate balancing. Tie SCAP along with BAL to GND to disable the balancer and its (See Datasheet)", 3 VIN2 (power) "Internal Low Voltage Rail to Serve as Gate Drive for Buck NMOS Switch. Connect a 4.7uF (or larger) capacitor from VIN2 to GND. This pin is not intended for use as an external system rail.", 4 UV3 (in) "UVLO Select Bits for the Buck Switching Regulator. Tie high to VIN2 or low to GND to select the desired UVLO rising and falling thresholds (see Table 4). Do not float.", 5 UV2 (in) "UVLO Select Bits for the Buck Switching Regulator. Tie high to VIN2 or low to GND to select the desired UVLO rising and falling thresholds (see Table 4). Do not float.", 6 UV1 (in) "UVLO Select Bits for the Buck Switching Regulator. Tie high to VIN2 or low to GND to select the desired UVLO rising and falling thresholds (see Table 4). Do not float.", 7 UV0 (in) "UVLO Select Bits for the Buck Switching Regulator. Tie high to VIN2 or low to GND to select the desired UVLO rising and falling thresholds (see Table 4). Do not float.", 8 AC1 (in) "Input Connection for Piezoelectric Element or Other AC Source (used in conjunction with AC2 for differential AC inputs).", 9 AC2 (in) "Input Connection for Piezoelectric Element or Other AC Source (used in conjunction with AC1 for differential AC inputs).", 10 VIN (power) "Rectified Input Voltage. A capacitor on this pin serves as an energy reservoir and input supply for the buck regulator. The VIN voltage is internally clamped to a maximum of 20V (typical).", 11 CAP "Internal Rail Referenced to VIN to Serve as Gate Drive for Buck PMOS Switch. Connect a 1uF (or larger) capacitor between CAP and VIN. This pin is not intended for use as an external system rail.", 12 SW (power) "Switch Node for the Buck Switching Regulator. Connect a 22uH or greater external inductor between this node and VOUT.", 13 VOUT (power) "Regulated Output Voltage Derived from the Buck or Buck-Boost Switching Regulator.", 14 SWB (power) "Switch Node for the Buck-Boost Switching Regulator. Connect an external inductor between this node and SWA of value per Table 3.", 15 SWA (power) "Switch Node for the Buck-Boost Switching Regulator. Connect an external inductor between this node and SWB of value per Table 3.", 16 BAT (power) "Input for Battery. BAT serves as the input to the buck-boost switching regulator.", 17 IPK0 (in) "IPEAK Select Bits or the Buck-Boost Switching Regulator. Tie high to VIN3 or low to GND to select the desired IPEAK (see Table 3). Do not float.", 18 IPK1 (in) "IPEAK Select Bits or the Buck-Boost Switching Regulator. Tie high to VIN3 or low to GND to select the desired IPEAK (see Table 3). Do not float.", 19 IPK2 (in) "IPEAK Select Bits or the Buck-Boost Switching Regulator. Tie high to VIN3 or low to GND to select the desired IPEAK (see Table 3). Do not float.", 20 LDO_OUT (power) "Regulated LDO Output. This output can be used as a quiet supply. One mode is provided to run the LDO as a current limited switch to alternately power up and power down circuitry without low power modes.", 21 LDO_IN (power) "Input Voltage for the LDO regulator.", 22 LDO2 (in) "LDO Voltage Select Bits. Tie high to LDO_IN or low to GND to select the desired LDO_OUT voltage (see Table 2). Do not float.", 23 LDO1 (in) "LDO Voltage Select Bits. Tie high to LDO_IN or low to GND to select the desired LDO_OUT voltage (see Table 2). Do not float.", 24 LDO0 (in) "LDO Voltage Select Bits. Tie high to LDO_IN or low to GND to select the desired LDO_OUT voltage (see Table 2). Do not float.", 25 LDO_EN (in) "LDO Enable Input. Active high input with logic levels referenced to LDO_IN. Do not float.", 26 VIN3 (in) "Internal Low Voltage Rail Used by the Prioritizer. Connect a 1uF (or larger) capacitor from VIN3 to GND. This pin is not intended for use as an external system rail.", 27 PGLDO (out) "Power Good Output for LDO_OUT. Logic level output referenced to an internal maximum rail (see Operation). PGLDO transitioning high indicates 92.5% (typical) regulation has been reached on LDO_OUT. PGLDO remains high until (See Datasheet)", 28 PGVOUT (out) "Power Good Output for VOUT. Logic level output referenced to an internal maximum rail (see Operation). PGVOUT transitioning high indicates regulation has been reached on VOUT (VOUT = Sleep Rising). PGVOUT remains high until (See Datasheet)", 29 EH_ON (out) "Switcher Status. Logic level output referenced to VIN3. EH_ON is high when the buck switching regulator is in use. It is pulled low when buck-boost switching regulator is in use.", 30 OUT0 (in) "VOUT Voltage Select Bits. Tie high to VIN3 or low to GND to select the desired VOUT (see Table 1). Do not float.", 31 OUT1 (in) "VOUT Voltage Select Bits. Tie high to VIN3 or low to GND to select the desired VOUT (see Table 1). Do not float.", 32 OUT2 (in) "VOUT Voltage Select Bits. Tie high to VIN3 or low to GND to select the desired VOUT (see Table 1). Do not float.", 33 GND (power) "Ground. The exposed pad must be connected to a continuous ground plane on the second layer of the printed circuit board by several vias directly under the LTC3330."

## LTC3330IUH#PBF
designator U?
Energy Harvesting DC/DC with Battery Backup, 32-pin QFN (UH-32), -40 to 125 degC, Pb-Free; Manufacturer: Linear Technology; PartNumber: LTC3330IUH#PBF; Energy Source: Piezoelectric, Solar, Magnetic; Number of Outputs: 2; Topology: Buck-Boost; Vin Max(V): 18; Vin Min(V): 3; PackageVersion: Rev. D, 06/2010; PackageReference: UH-32; PackageDescription: 32-Pin Plastic QFN, Body 5 x 5 mm, Pitch 0.5 mm; RoHS: TRUE; Mounting Technology: Surface Mount; Code_JEDEC: MO-220; ComponentLink1Description: Manufacturer URL; ComponentLink1URL: http://www.linear.com/; ComponentLink2Description: Datasheet; ComponentLink2URL: http://cds.linear.com/docs/en/datasheet/3330p.pdf; ComponentLink3Description: Package Specification; ComponentLink3URL: http://cds.linear.com/docs/en/packaging/QFN_32_05-08-1693.pdf
footprint LT-UH-32_N (QFN, 32-Leads, Body 5.1x5.1mm, Pitch 0.5mm, Thermal Pad 3.45X3.45mm, IPC Medium Density)
footprint LT-UH-32_L (QFN, 32-Leads, Body 5.1x5.1mm, Pitch 0.5mm, Thermal Pad 3.45X3.45mm, IPC High Density)
footprint LT-UH-32_M (QFN, 32-Leads, Body 5.1x5.1mm, Pitch 0.5mm, Thermal Pad 3.45X3.45mm, IPC Low Density)
pins: 1 BAL "Supercapacitor Balance Point. The common node of a stack of two supercapacitors is connected to BAL. A source/sink balancing current of up to 10mA is available. Tie BAL along with SCAP to GND to disable the balancer and its (See Datasheet)", 2 SCAP "Supply and Sense Point for Supercapacitor Balancer. Tie the top of a 2-capacitor stack to SCAP and the middle of the stack to BAL to activate balancing. Tie SCAP along with BAL to GND to disable the balancer and its (See Datasheet)", 3 VIN2 (power) "Internal Low Voltage Rail to Serve as Gate Drive for Buck NMOS Switch. Connect a 4.7uF (or larger) capacitor from VIN2 to GND. This pin is not intended for use as an external system rail.", 4 UV3 (in) "UVLO Select Bits for the Buck Switching Regulator. Tie high to VIN2 or low to GND to select the desired UVLO rising and falling thresholds (see Table 4). Do not float.", 5 UV2 (in) "UVLO Select Bits for the Buck Switching Regulator. Tie high to VIN2 or low to GND to select the desired UVLO rising and falling thresholds (see Table 4). Do not float.", 6 UV1 (in) "UVLO Select Bits for the Buck Switching Regulator. Tie high to VIN2 or low to GND to select the desired UVLO rising and falling thresholds (see Table 4). Do not float.", 7 UV0 (in) "UVLO Select Bits for the Buck Switching Regulator. Tie high to VIN2 or low to GND to select the desired UVLO rising and falling thresholds (see Table 4). Do not float.", 8 AC1 (in) "Input Connection for Piezoelectric Element or Other AC Source (used in conjunction with AC2 for differential AC inputs).", 9 AC2 (in) "Input Connection for Piezoelectric Element or Other AC Source (used in conjunction with AC1 for differential AC inputs).", 10 VIN (power) "Rectified Input Voltage. A capacitor on this pin serves as an energy reservoir and input supply for the buck regulator. The VIN voltage is internally clamped to a maximum of 20V (typical).", 11 CAP "Internal Rail Referenced to VIN to Serve as Gate Drive for Buck PMOS Switch. Connect a 1uF (or larger) capacitor between CAP and VIN. This pin is not intended for use as an external system rail.", 12 SW (power) "Switch Node for the Buck Switching Regulator. Connect a 22uH or greater external inductor between this node and VOUT.", 13 VOUT (power) "Regulated Output Voltage Derived from the Buck or Buck-Boost Switching Regulator.", 14 SWB (power) "Switch Node for the Buck-Boost Switching Regulator. Connect an external inductor between this node and SWA of value per Table 3.", 15 SWA (power) "Switch Node for the Buck-Boost Switching Regulator. Connect an external inductor between this node and SWB of value per Table 3.", 16 BAT (power) "Input for Battery. BAT serves as the input to the buck-boost switching regulator.", 17 IPK0 (in) "IPEAK Select Bits or the Buck-Boost Switching Regulator. Tie high to VIN3 or low to GND to select the desired IPEAK (see Table 3). Do not float.", 18 IPK1 (in) "IPEAK Select Bits or the Buck-Boost Switching Regulator. Tie high to VIN3 or low to GND to select the desired IPEAK (see Table 3). Do not float.", 19 IPK2 (in) "IPEAK Select Bits or the Buck-Boost Switching Regulator. Tie high to VIN3 or low to GND to select the desired IPEAK (see Table 3). Do not float.", 20 LDO_OUT (power) "Regulated LDO Output. This output can be used as a quiet supply. One mode is provided to run the LDO as a current limited switch to alternately power up and power down circuitry without low power modes.", 21 LDO_IN (power) "Input Voltage for the LDO regulator.", 22 LDO2 (in) "LDO Voltage Select Bits. Tie high to LDO_IN or low to GND to select the desired LDO_OUT voltage (see Table 2). Do not float.", 23 LDO1 (in) "LDO Voltage Select Bits. Tie high to LDO_IN or low to GND to select the desired LDO_OUT voltage (see Table 2). Do not float.", 24 LDO0 (in) "LDO Voltage Select Bits. Tie high to LDO_IN or low to GND to select the desired LDO_OUT voltage (see Table 2). Do not float.", 25 LDO_EN (in) "LDO Enable Input. Active high input with logic levels referenced to LDO_IN. Do not float.", 26 VIN3 (in) "Internal Low Voltage Rail Used by the Prioritizer. Connect a 1uF (or larger) capacitor from VIN3 to GND. This pin is not intended for use as an external system rail.", 27 PGLDO (out) "Power Good Output for LDO_OUT. Logic level output referenced to an internal maximum rail (see Operation). PGLDO transitioning high indicates 92.5% (typical) regulation has been reached on LDO_OUT. PGLDO remains high until (See Datasheet)", 28 PGVOUT (out) "Power Good Output for VOUT. Logic level output referenced to an internal maximum rail (see Operation). PGVOUT transitioning high indicates regulation has been reached on VOUT (VOUT = Sleep Rising). PGVOUT remains high until (See Datasheet)", 29 EH_ON (out) "Switcher Status. Logic level output referenced to VIN3. EH_ON is high when the buck switching regulator is in use. It is pulled low when buck-boost switching regulator is in use.", 30 OUT0 (in) "VOUT Voltage Select Bits. Tie high to VIN3 or low to GND to select the desired VOUT (see Table 1). Do not float.", 31 OUT1 (in) "VOUT Voltage Select Bits. Tie high to VIN3 or low to GND to select the desired VOUT (see Table 1). Do not float.", 32 OUT2 (in) "VOUT Voltage Select Bits. Tie high to VIN3 or low to GND to select the desired VOUT (see Table 1). Do not float.", 33 GND (power) "Ground. The exposed pad must be connected to a continuous ground plane on the second layer of the printed circuit board by several vias directly under the LTC3330."